# Altium integrated library connectors.IntLib: 7 symbols
Pins are listed as number, name and electrical type; pins without a type are passive.

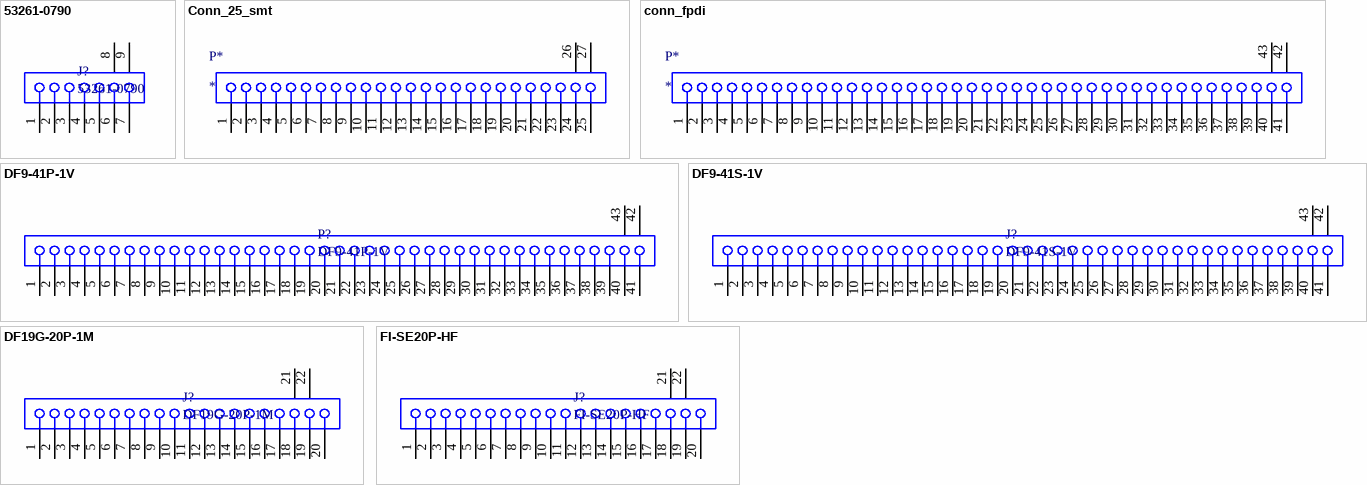
[diagram p0: symbols 53261-0790 to FI-SE20P-HF]

## 53261-0790
designator J?
Molex 1.25 Wire to board
footprint 53261-07
pins: 1, 2, 3, 4, 5, 6, 7, 8, 9

## Conn_25_smt
designator P*
footprint Conn_25_smt
pins: 1, 2, 3, 4, 5, 6, 7, 8, 9, 10, 11, 12, 13, 14, 15, 16, 17, 18, 19, 20, 21, 22, 23, 24, 25, 26 MH1, 27 MH2

## conn_fpdi
designator P*
footprint conn_fpdi
pins: 1, 2, 3, 4, 5, 6, 7, 8, 9, 10, 11, 12, 13, 14, 15, 16, 17, 18, 19, 20, 21, 22, 23, 24, 25, 26, 27, 28, 29, 30, 31, 32, 33, 34, 35, 36, 37, 38, 39, 40, 41, 42 MH2, 43 MH1

## DF9-41P-1V
designator P?
1mm Pitch SMT VESA FPDI-1
footprint DF9-41P-1V
pins: 1, 2, 3, 4, 5, 6, 7, 8, 9, 10, 11, 12, 13, 14, 15, 16, 17, 18, 19, 20, 21, 22, 23, 24, 25, 26, 27, 28, 29, 30, 31, 32, 33, 34, 35, 36, 37, 38, 39, 40, 41, 42 MH2, 43 MH1

## DF9-41S-1V
designator J?
1mm Pitch SMT VESA FPDI-1
footprint DF9-41S-1V
pins: 1, 2, 3, 4, 5, 6, 7, 8, 9, 10, 11, 12, 13, 14, 15, 16, 17, 18, 19, 20, 21, 22, 23, 24, 25, 26, 27, 28, 29, 30, 31, 32, 33, 34, 35, 36, 37, 38, 39, 40, 41, 42 MH2, 43 MH1

## DF19G-20P-1M
designator J?
20PIN 1mm pitch
footprint DF19G-20P-1H
pins: 1, 2, 3, 4, 5, 6, 7, 8, 9, 10, 11, 12, 13, 14, 15, 16, 17, 18, 19, 20, 21, 22

## FI-SE20P-HF
designator J?
20PIN 1.25mm pitch
footprint FI-SE20P-HF
pins: 1, 2, 3, 4, 5, 6, 7, 8, 9, 10, 11, 12, 13, 14, 15, 16, 17, 18, 19, 20, 21, 22